# Altium integrated library Microprocessors.IntLib: 11 symbols
Pins are listed as number, name and electrical type; pins without a type are passive.

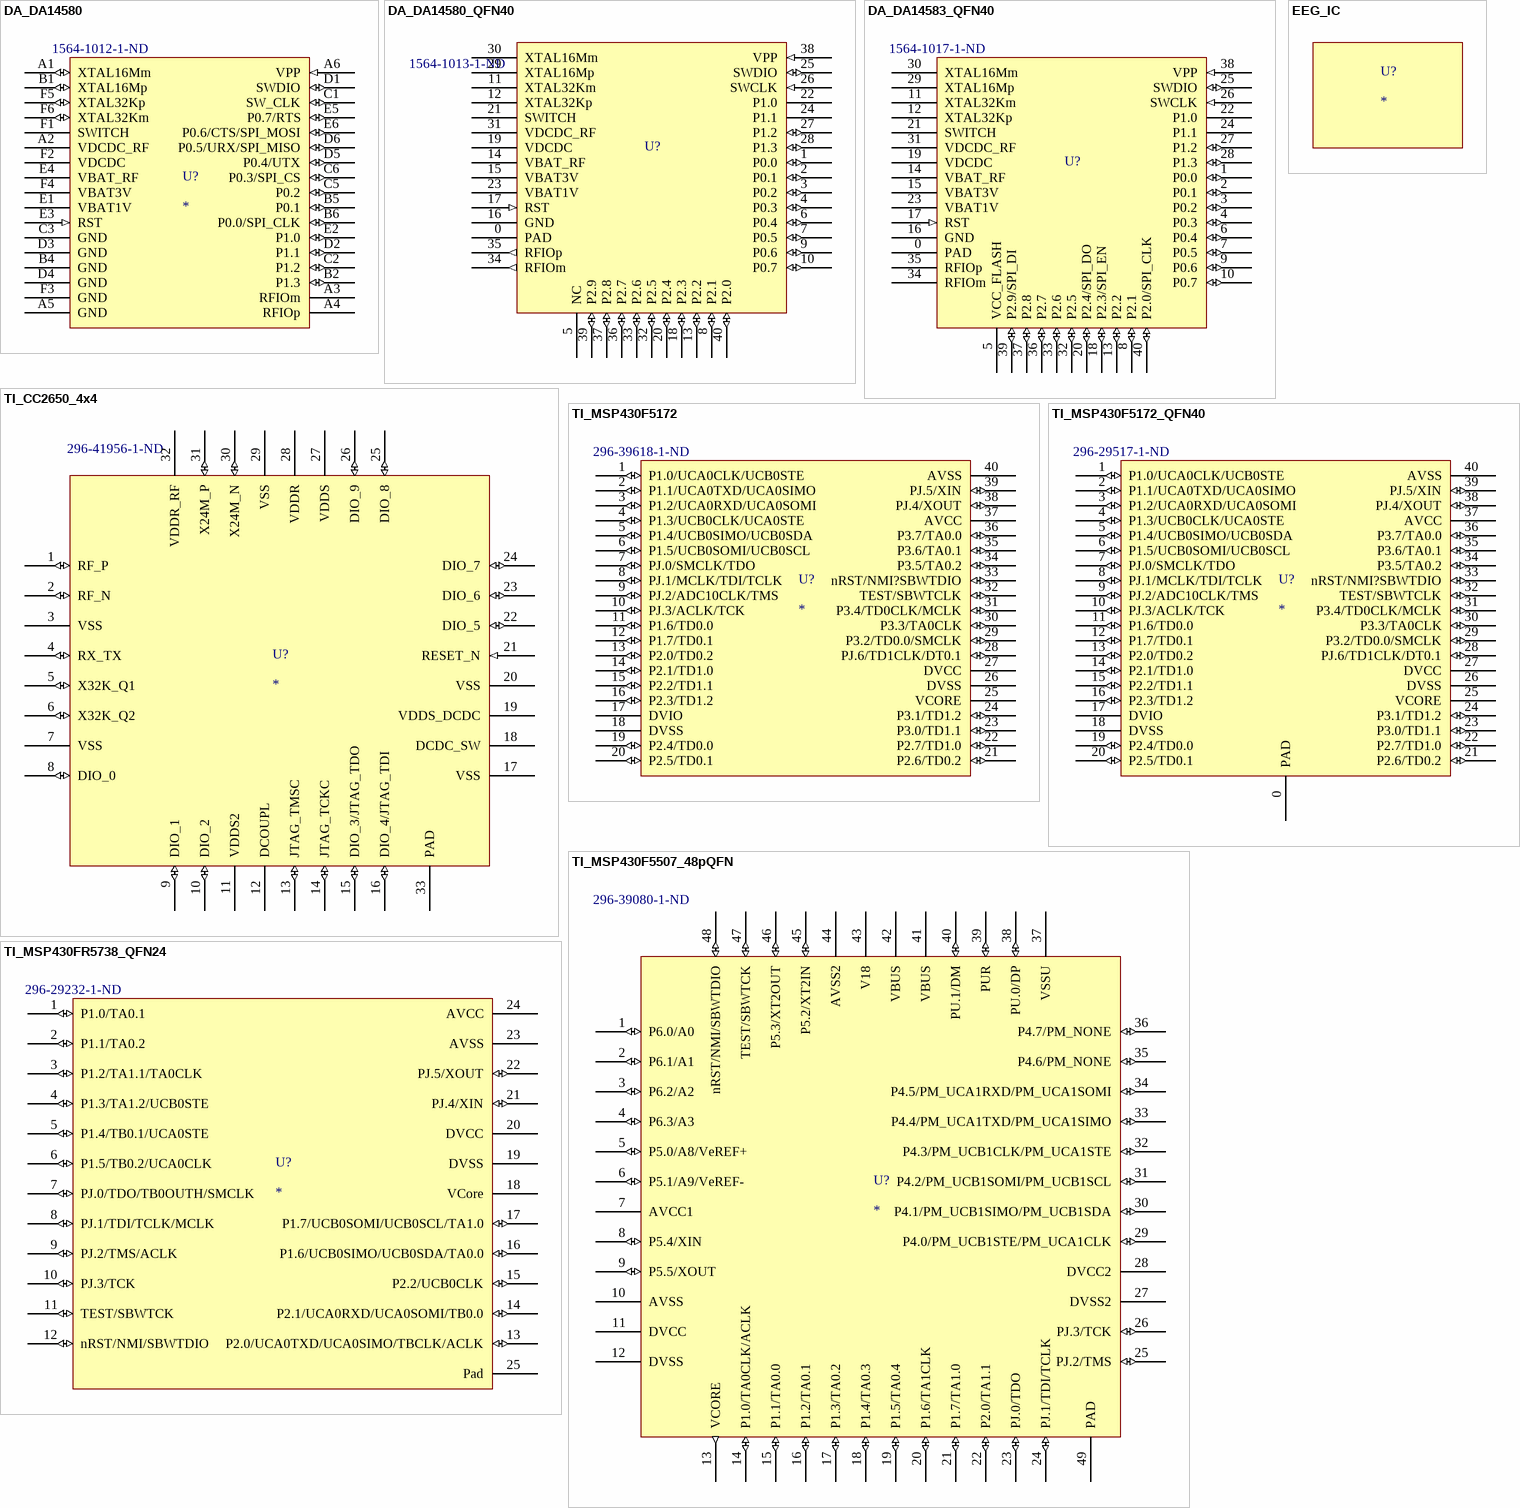
[diagram p0: symbols DA_DA14580 to TI_MSP430FR5738_QFN24]

## DA_DA14580
designator U?  Supplier Part Number 1: 1564-1012-1-ND
DA14580_BLE_WLCSP; Supplier 1: Digi-Key
footprint DA_DA14580_WLCSP34 (BGA, 34-Leads, Body 2.44x2.44mmx0.55mm, Pitch 0.40mm)
pins: A1 XTAL16Mm (io), A2 VDCDC_RF (power), A3 RFIOm, A4 RFIOp, A5 GND (power), A6 VPP (in), B1 XTAL16Mp (io), B2 P1.3 (io), B4 GND (power), B5 P0.1 (io), B6 P0.0/SPI_CLK (io), C1 SW_CLK (io), C2 P1.2 (io), C3 GND (power), C5 P0.2 (io), C6 P0.3/SPI_CS (io), D1 SWDIO (io), D2 P1.1 (io), D3 GND (power), D4 GND (power), D5 P0.4/UTX (io), D6 P0.5/URX/SPI_MISO (io), E1 VBAT1V (power), E2 P1.0 (io), E3 RST (in), E4 VBAT_RF (power), E5 P0.7/RTS (io), E6 P0.6/CTS/SPI_MOSI (io), F1 SWITCH (power), F2 VDCDC (power), F3 GND (power), F4 VBAT3V (power), F5 XTAL32Kp (io), F6 XTAL32Km (io)

## DA_DA14580_QFN40
designator U?  Supplier Part Number 1: 1564-1013-1-ND
DA14580_BLE_QFN40; Supplier 1: Digi-Key
footprint DA_DA14580_QFN40 (QFN, 40-Leads, Body 5.00x5.00mm, Pitch 0.40mm, Thermal Pad 3.65x3.65mm, IPC High Density)
pins: 0 PAD (power), 1 P0.0 (io), 2 P0.1 (io), 3 P0.2 (io), 4 P0.3 (io), 5 NC, 6 P0.4 (io), 7 P0.5 (io), 8 P2.1 (io), 9 P0.6 (io), 10 P0.7 (io), 11 XTAL32Km, 12 XTAL32Kp, 13 P2.2 (io), 14 VBAT_RF (power), 15 VBAT3V (power), 16 GND (power), 17 RST (in), 18 P2.3 (io), 19 VDCDC (power), 20 P2.4 (io), 21 SWITCH (power), 22 P1.0, 23 VBAT1V (power), 24 P1.1, 25 SWDIO (io), 26 SWCLK (in), 27 P1.2 (io), 28 P1.3 (io), 29 XTAL16Mp, 30 XTAL16Mm, 31 VDCDC_RF (power), 32 P2.5 (io), 33 P2.6 (io), 34 RFIOm (out), 35 RFIOp (out), 36 P2.7 (io), 37 P2.8 (io), 38 VPP (in), 39 P2.9 (io), 40 P2.0 (io)

## DA_DA14583_QFN40
designator U?  Supplier Part Number 1: 1564-1017-1-ND
DA14583_BLE_QFN40; Supplier 1: Digi-Key
footprint DA_DA14580_QFN40 (QFN, 40-Leads, Body 5.00x5.00mm, Pitch 0.40mm, Thermal Pad 3.65x3.65mm, IPC High Density)
pins: 0 PAD (power), 1 P0.0 (io), 2 P0.1 (io), 3 P0.2 (io), 4 P0.3 (io), 5 VCC_FLASH (power), 6 P0.4 (io), 7 P0.5 (io), 8 P2.1 (io), 9 P0.6 (io), 10 P0.7 (io), 11 XTAL32Km, 12 XTAL32Kp, 13 P2.2 (io), 14 VBAT_RF (power), 15 VBAT3V (power), 16 GND (power), 17 RST (in), 18 P2.3/SPI_EN (io), 19 VDCDC (power), 20 P2.4/SPI_DO (io), 21 SWITCH (power), 22 P1.0, 23 VBAT1V (power), 24 P1.1, 25 SWDIO (io), 26 SWCLK (in), 27 P1.2 (io), 28 P1.3 (io), 29 XTAL16Mp, 30 XTAL16Mm, 31 VDCDC_RF (power), 32 P2.5 (io), 33 P2.6 (io), 34 RFIOm, 35 RFIOp, 36 P2.7 (io), 37 P2.8 (io), 38 VPP (in), 39 P2.9/SPI_DI (io), 40 P2.0/SPI_CLK (io)

## EEG_IC
designator U?
footprint EEG_AD_LFCSP-64 (QFN, 64-Leads, Body 9.00x9.00mm, Pitch 0.50mm, Thermal Pad 7.10x7.10mm, IPC High Density)

## TI_CC2650_4x4
designator U?  Supplier Part Number 1: 296-41956-1-ND
TI_CC2650_4x4; Supplier 1: Digi-Key
footprint TI_CC2650_PVQFN32 (QFN, 32-Leads, Body 4.00x4.00mm, Pitch 0.40mm, Thermal Pad 2.80x2.80mm, IPC High Density)
pins: 1 RF_P (io), 2 RF_N (io), 3 VSS (power), 4 RX_TX (io), 5 X32K_Q1 (io), 6 X32K_Q2 (io), 7 VSS (power), 8 DIO_0 (io), 9 DIO_1 (io), 10 DIO_2 (io), 11 VDDS2 (power), 12 DCOUPL (power), 13 JTAG_TMSC (io), 14 JTAG_TCKC (io), 15 DIO_3/JTAG_TDO (io), 16 DIO_4/JTAG_TDI (io), 17 VSS (power), 18 DCDC_SW (power), 19 VDDS_DCDC (power), 20 VSS (power), 21 RESET_N (in), 22 DIO_5 (io), 23 DIO_6 (io), 24 DIO_7 (io), 25 DIO_8 (io), 26 DIO_9 (io), 27 VDDS (power), 28 VDDR (power), 29 VSS (power), 30 X24M_N (io), 31 X24M_P (io), 32 VDDR_RF (power), 33 PAD (power)

## TI_MSP430F5172
designator U?  Supplier Part Number 1: 296-39618-1-ND
TI_MSP430F5172_BGA; Supplier 1: Digi-Key
footprint TI_MSP430F5172_YFF40 (BGA, 42-Leads, Body 2.76x3.06mmx0.63mm, Pitch 0.40mm); pin to pad 1>B5 2>B6 3>c5 4>c6 5>d5 6>d6 7>e6 8>e5 9>f6 10>e4 11>g6 12>f5 13>f4 14>g5 15>g4 16>e3 17>g3 18>g2 19>f3 20>g1 21>f2 22>e2 23>f1 24>e1 25>d1 26>c1 27>b1 28>c2 29>b2 30>a1 31>a2 32>d2 33>b3 34>a3 35>a4 36>b4 37>c3 38>a5 39>a6 40>c4
pins: 1 P1.0/UCA0CLK/UCB0STE (io), 2 P1.1/UCA0TXD/UCA0SIMO (io), 3 P1.2/UCA0RXD/UCA0SOMI (io), 4 P1.3/UCB0CLK/UCA0STE (io), 5 P1.4/UCB0SIMO/UCB0SDA (io), 6 P1.5/UCB0SOMI/UCB0SCL (io), 7 PJ.0/SMCLK/TDO (io), 8 PJ.1/MCLK/TDI/TCLK (io), 9 PJ.2/ADC10CLK/TMS (io), 10 PJ.3/ACLK/TCK (io), 11 P1.6/TD0.0 (io), 12 P1.7/TD0.1 (io), 13 P2.0/TD0.2 (io), 14 P2.1/TD1.0 (io), 15 P2.2/TD1.1 (io), 16 P2.3/TD1.2 (io), 17 DVIO (power), 18 DVSS (power), 19 P2.4/TD0.0 (io), 20 P2.5/TD0.1 (io), 21 P2.6/TD0.2 (io), 22 P2.7/TD1.0 (io), 23 P3.0/TD1.1 (io), 24 P3.1/TD1.2 (io), 25 VCORE, 26 DVSS (power), 27 DVCC (power), 28 PJ.6/TD1CLK/DT0.1 (io), 29 P3.2/TD0.0/SMCLK (io), 30 P3.3/TA0CLK (io), 31 P3.4/TD0CLK/MCLK (io), 32 TEST/SBWTCLK (io), 33 nRST/NMI?SBWTDIO (io), 34 P3.5/TA0.2 (io), 35 P3.6/TA0.1 (io), 36 P3.7/TA0.0 (io), 37 AVCC (power), 38 PJ.4/XOUT (io), 39 PJ.5/XIN (io), 40 AVSS (power)

## TI_MSP430F5172_QFN40
designator U?  Supplier Part Number 1: 296-29517-1-ND
TI_MSP430F5172_QFN40; Supplier 1: Digi-Key
footprint TI_MSP430F5172_QFN40 (QFN, 40-Leads, Body 5.00x5.00mm, Pitch 0.40mm, Thermal Pad 3.65x3.65mm, IPC High Density)
footprint TI_MSP430F5172_QFN40 (QFN, 40-Leads, Body 5.00x5.00mm, Pitch 0.40mm, Thermal Pad 3.65x3.65mm, IPC High Density)
pins: 0 PAD (power), 1 P1.0/UCA0CLK/UCB0STE (io), 2 P1.1/UCA0TXD/UCA0SIMO (io), 3 P1.2/UCA0RXD/UCA0SOMI (io), 4 P1.3/UCB0CLK/UCA0STE (io), 5 P1.4/UCB0SIMO/UCB0SDA (io), 6 P1.5/UCB0SOMI/UCB0SCL (io), 7 PJ.0/SMCLK/TDO (io), 8 PJ.1/MCLK/TDI/TCLK (io), 9 PJ.2/ADC10CLK/TMS (io), 10 PJ.3/ACLK/TCK (io), 11 P1.6/TD0.0 (io), 12 P1.7/TD0.1 (io), 13 P2.0/TD0.2 (io), 14 P2.1/TD1.0 (io), 15 P2.2/TD1.1 (io), 16 P2.3/TD1.2 (io), 17 DVIO (power), 18 DVSS (power), 19 P2.4/TD0.0 (io), 20 P2.5/TD0.1 (io), 21 P2.6/TD0.2 (io), 22 P2.7/TD1.0 (io), 23 P3.0/TD1.1 (io), 24 P3.1/TD1.2 (io), 25 VCORE, 26 DVSS (power), 27 DVCC (power), 28 PJ.6/TD1CLK/DT0.1 (io), 29 P3.2/TD0.0/SMCLK (io), 30 P3.3/TA0CLK (io), 31 P3.4/TD0CLK/MCLK (io), 32 TEST/SBWTCLK (io), 33 nRST/NMI?SBWTDIO (io), 34 P3.5/TA0.2 (io), 35 P3.6/TA0.1 (io), 36 P3.7/TA0.0 (io), 37 AVCC (power), 38 PJ.4/XOUT (io), 39 PJ.5/XIN (io), 40 AVSS (power)

## TI_MSP430F5507_48pQFN
designator U?  Supplier Part Number 1: 296-39080-1-ND
TI_MSP430F5507_QFN; Supplier 1: Digi-Key
footprint TI_MSP430F5507_QFN48 (QFN, 48-Leads, Body 7.00x7.00mm, Pitch 0.50mm, Thermal Pad 5.15x5.15mm, IPC High Density)
pins: 1 P6.0/A0 (io), 2 P6.1/A1 (io), 3 P6.2/A2 (io), 4 P6.3/A3 (io), 5 P5.0/A8/VeREF+ (io), 6 P5.1/A9/VeREF- (io), 7 AVCC1 (power), 8 P5.4/XIN (io), 9 P5.5/XOUT (io), 10 AVSS (power), 11 DVCC (power), 12 DVSS (power), 13 VCORE (out), 14 P1.0/TA0CLK/ACLK (io), 15 P1.1/TA0.0 (io), 16 P1.2/TA0.1 (io), 17 P1.3/TA0.2 (io), 18 P1.4/TA0.3 (io), 19 P1.5/TA0.4 (io), 20 P1.6/TA1CLK (io), 21 P1.7/TA1.0 (io), 22 P2.0/TA1.1 (io), 23 PJ.0/TDO (io), 24 PJ.1/TDI/TCLK (io), 25 PJ.2/TMS (io), 26 PJ.3/TCK (io), 27 DVSS2 (power), 28 DVCC2 (power), 29 P4.0/PM_UCB1STE/PM_UCA1CLK (io), 30 P4.1/PM_UCB1SIMO/PM_UCB1SDA (io), 31 P4.2/PM_UCB1SOMI/PM_UCB1SCL (io), 32 P4.3/PM_UCB1CLK/PM_UCA1STE (io), 33 P4.4/PM_UCA1TXD/PM_UCA1SIMO (io), 34 P4.5/PM_UCA1RXD/PM_UCA1SOMI (io), 35 P4.6/PM_NONE (io), 36 P4.7/PM_NONE (io), 37 VSSU (power), 38 PU.0/DP (io), 39 PUR (io), 40 PU.1/DM (io), 41 VBUS (power), 42 VBUS (power), 43 V18 (power), 44 AVSS2 (power), 45 P5.2/XT2IN (io), 46 P5.3/XT2OUT (io), 47 TEST/SBWTCK (io), 48 nRST/NMI/SBWTDIO (io), 49 PAD (power)

## TI_MSP430FR5738_QFN24
designator U?  Supplier Part Number 1: 296-29232-1-ND
MSP430FR5738; Supplier 1: Digi-Key
footprint TI_MSP430FR5738_QFN24 (QFN, 24-Leads, Body 4.00x4.00mm, Pitch 0.50mm, Thermal Pad 2.10x2.10mm, IPC High Density)
pins: 1 P1.0/TA0.1 (io), 2 P1.1/TA0.2 (io), 3 P1.2/TA1.1/TA0CLK (io), 4 P1.3/TA1.2/UCB0STE (io), 5 P1.4/TB0.1/UCA0STE (io), 6 P1.5/TB0.2/UCA0CLK (io), 7 PJ.0/TDO/TB0OUTH/SMCLK (io), 8 PJ.1/TDI/TCLK/MCLK (io), 9 PJ.2/TMS/ACLK (io), 10 PJ.3/TCK (io), 11 TEST/SBWTCK (io), 12 nRST/NMI/SBWTDIO (io), 13 P2.0/UCA0TXD/UCA0SIMO/TBCLK/ACLK (io), 14 P2.1/UCA0RXD/UCA0SOMI/TB0.0 (io), 15 P2.2/UCB0CLK (io), 16 P1.6/UCB0SIMO/UCB0SDA/TA0.0 (io), 17 P1.7/UCB0SOMI/UCB0SCL/TA1.0 (io), 18 VCore, 19 DVSS (power), 20 DVCC (power), 21 PJ.4/XIN (io), 22 PJ.5/XOUT (io), 23 AVSS (power), 24 AVCC (power), 25 Pad (power)

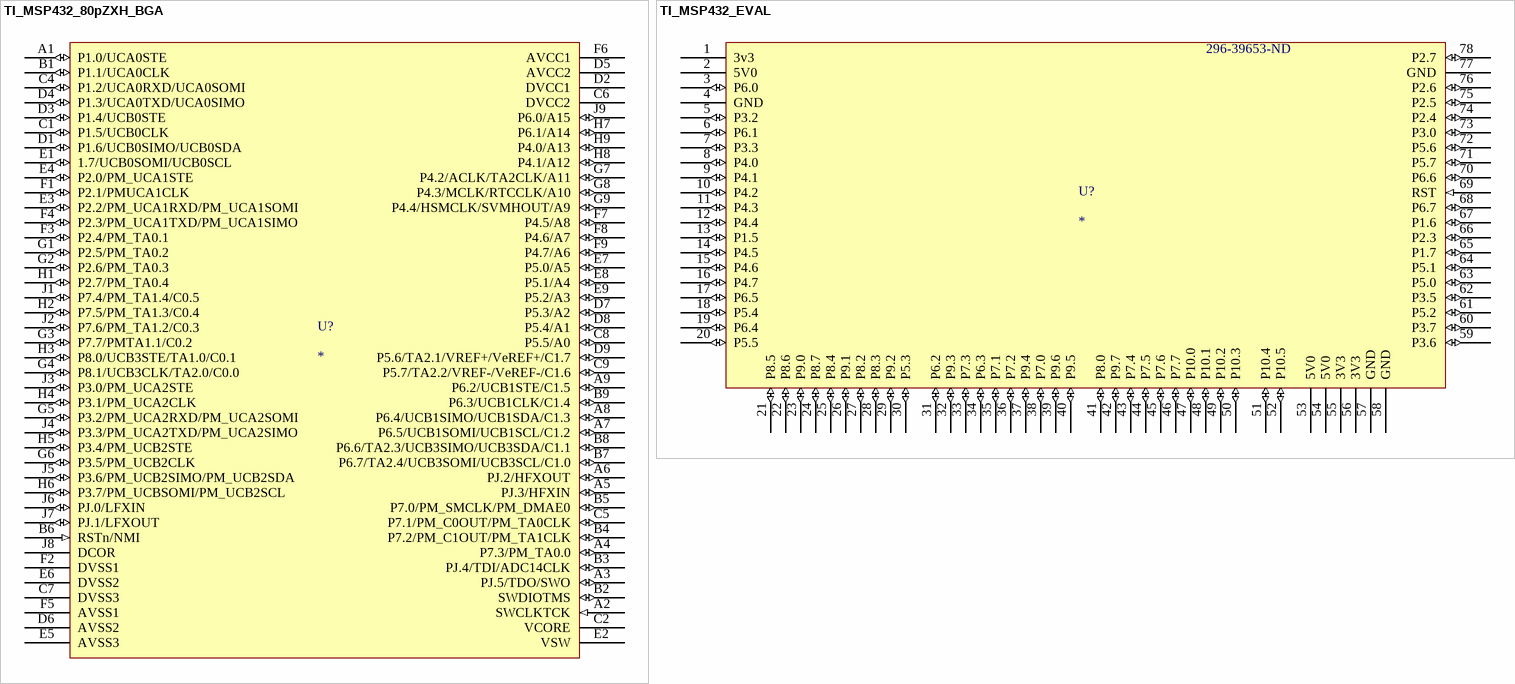
[diagram p1: symbols TI_MSP432_80pZXH_BGA to TI_MSP432_EVAL]

## TI_MSP432_80pZXH_BGA
designator U?
TI_MSP432_80pZXH_BGA
footprint TI_MSP432_ZXH80_NFBGA (BGA, 80-Leads, Body 5.00x5.00mmx1.00mm, Pitch 0.50mm)
pins: A1 P1.0/UCA0STE (io), A2 SWCLKTCK (in), A3 PJ.5/TDO/SWO (io), A4 P7.3/PM_TA0.0 (io), A5 PJ.3/HFXIN (io), A6 PJ.2/HFXOUT (io), A7 P6.5/UCB1SOMI/UCB1SCL/C1.2 (io), A8 P6.4/UCB1SIMO/UCB1SDA/C1.3 (io), A9 P6.2/UCB1STE/C1.5 (io), B1 P1.1/UCA0CLK (io), B2 SWDIOTMS (io), B3 PJ.4/TDI/ADC14CLK (io), B4 P7.2/PM_C1OUT/PM_TA1CLK (io), B5 P7.0/PM_SMCLK/PM_DMAE0 (io), B6 RSTn/NMI (in), B7 P6.7/TA2.4/UCB3SOMI/UCB3SCL/C1.0 (io), B8 P6.6/TA2.3/UCB3SIMO/UCB3SDA/C1.1 (io), B9 P6.3/UCB1CLK/C1.4 (io), C1 P1.5/UCB0CLK (io), C2 VCORE, C4 P1.2/UCA0RXD/UCA0SOMI (io), C5 P7.1/PM_C0OUT/PM_TA0CLK (io), C6 DVCC2 (power), C7 DVSS3 (power), C8 P5.5/A0 (io), C9 P5.7/TA2.2/VREF-/VeREF-/C1.6 (io), D1 P1.6/UCB0SIMO/UCB0SDA (io), D2 DVCC1 (power), D3 P1.4/UCB0STE (io), D4 P1.3/UCA0TXD/UCA0SIMO (io), D5 AVCC2 (power), D6 AVSS2 (power), D7 P5.3/A2 (io), D8 P5.4/A1 (io), D9 P5.6/TA2.1/VREF+/VeREF+/C1.7 (io), E1 1.7/UCB0SOMI/UCB0SCL (io), E2 VSW (power), E3 P2.2/PM_UCA1RXD/PM_UCA1SOMI (io), E4 P2.0/PM_UCA1STE (io), E5 AVSS3 (power), E6 DVSS2 (power), E7 P5.0/A5 (io), E8 P5.1/A4 (io), E9 P5.2/A3 (io), F1 P2.1/PMUCA1CLK (io), F2 DVSS1 (power), F3 P2.4/PM_TA0.1 (io), F4 P2.3/PM_UCA1TXD/PM_UCA1SIMO (io), F5 AVSS1 (power), F6 AVCC1 (power), F7 P4.5/A8 (io), F8 P4.6/A7 (io), F9 P4.7/A6 (io), G1 P2.5/PM_TA0.2 (io), G2 P2.6/PM_TA0.3 (io), G3 P7.7/PMTA1.1/C0.2 (io), G4 P8.1/UCB3CLK/TA2.0/C0.0 (io), G5 P3.2/PM_UCA2RXD/PM_UCA2SOMI (io), G6 P3.5/PM_UCB2CLK (io), G7 P4.2/ACLK/TA2CLK/A11 (io), G8 P4.3/MCLK/RTCCLK/A10 (io), G9 P4.4/HSMCLK/SVMHOUT/A9 (io), H1 P2.7/PM_TA0.4 (io), H2 P7.5/PM_TA1.3/C0.4 (io), H3 P8.0/UCB3STE/TA1.0/C0.1 (io), H4 P3.1/PM_UCA2CLK (io), H5 P3.4/PM_UCB2STE (io), H6 P3.7/PM_UCBSOMI/PM_UCB2SCL (io), H7 P6.1/A14 (io), H8 P4.1/A12 (io), H9 P4.0/A13 (io), J1 P7.4/PM_TA1.4/C0.5 (io), J2 P7.6/PM_TA1.2/C0.3 (io), J3 P3.0/PM_UCA2STE (io), J4 P3.3/PM_UCA2TXD/PM_UCA2SIMO (io), J5 P3.6/PM_UCB2SIMO/PM_UCB2SDA (io), J6 PJ.0/LFXIN (io), J7 PJ.1/LFXOUT (io), J8 DCOR, J9 P6.0/A15 (io)

## TI_MSP432_EVAL
designator U?  Supplier Part Number 1: 296-39653-ND
Supplier 1: Digikey
footprint TI_MSP432_EVAL
pins: 1 3v3 (power), 2 5V0 (power), 3 P6.0 (io), 4 GND (power), 5 P3.2 (io), 6 P6.1 (io), 7 P3.3 (io), 8 P4.0 (io), 9 P4.1 (io), 10 P4.2 (io), 11 P4.3 (io), 12 P4.4 (io), 13 P1.5 (io), 14 P4.5 (io), 15 P4.6 (io), 16 P4.7 (io), 17 P6.5 (io), 18 P5.4 (io), 19 P6.4 (io), 20 P5.5 (io), 21 P8.5 (io), 22 P8.6 (io), 23 P9.0 (io), 24 P8.7 (io), 25 P8.4 (io), 26 P9.1 (io), 27 P8.2 (io), 28 P8.3 (io), 29 P9.2 (io), 30 P5.3 (io), 31 P6.2 (io), 32 P9.3 (io), 33 P7.3 (io), 34 P6.3 (io), 35 P7.1 (io), 36 P7.2 (io), 37 P9.4 (io), 38 P7.0 (io), 39 P9.6 (io), 40 P9.5 (io), 41 P8.0 (io), 42 P9.7 (io), 43 P7.4 (io), 44 P7.5 (io), 45 P7.6 (io), 46 P7.7 (io), 47 P10.0 (io), 48 P10.1 (io), 49 P10.2 (io), 50 P10.3 (io), 51 P10.4 (io), 52 P10.5 (io), 53 5V0 (power), 54 5V0 (power), 55 3V3 (power), 56 3V3 (power), 57 GND (power), 58 GND (power), 59 P3.6 (io), 60 P3.7 (io), 61 P5.2 (io), 62 P3.5 (io), 63 P5.0 (io), 64 P5.1 (io), 65 P1.7 (io), 66 P2.3 (io), 67 P1.6 (io), 68 P6.7 (io), 69 RST (in), 70 P6.6 (io), 71 P5.7 (io), 72 P5.6 (io), 73 P3.0 (io), 74 P2.4 (io), 75 P2.5 (io), 76 P2.6 (io), 77 GND (power), 78 P2.7 (io)